# Altium schematic symbol library Components - 23.07.26 - 00.01.SchLib: 1 symbol
Pins are listed as number, name and electrical type; pins without a type are passive.

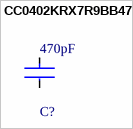
[diagram p0: symbol CC0402KRX7R9BB471]

## CC0402KRX7R9BB471
designator C?, comment 470pF
General Purpose Ceramic Capacitor, 0402, 470pF, 10%, X7R, 15%, 50V; Series: -; Height: 0.5mm; Termination: SMD/SMT; Packaging: Tape and Reel; Tolerance: 10%; REACH SVHC: No SVHC; Package Quantity: 10000; Case Code (Imperial): 0402; Voltage: 50V; Depth: 0.5mm; Case Code (Metric): 1005; Voltage Rating: 50V; Radiation Hardening: No; Construction: Flat; Mount: Surface Mount; Dielectric: X7R; Min Operating Temperature: -55°C; Width: 0.5mm; Number of Pins: 2; Case/Package: 0402; RoHS Compliant: Yes; Thickness: 0.022inch; Lead Free: Lead Free; Voltage Rating (DC): 50V; Max Operating Temperature: 125°C; Capacitance: 470pF; Length: 1mm; Contact Plating: Tin
footprint FP-0402-L_1_0_1-W_0_5_0_1-MFG
footprint FP-0402-L_1_0_1-W_0_5_0_1-IPC_B
footprint FP-0402-L_1_0_1-W_0_5_0_1-IPC_C
footprint FP-0402-L_1_0_1-W_0_5_0_1-IPC_A
pins: 1, 2